# EAGLE library part CY7C68013-56PVC (library MSA_lib)
Cypress EZ-USB FX2
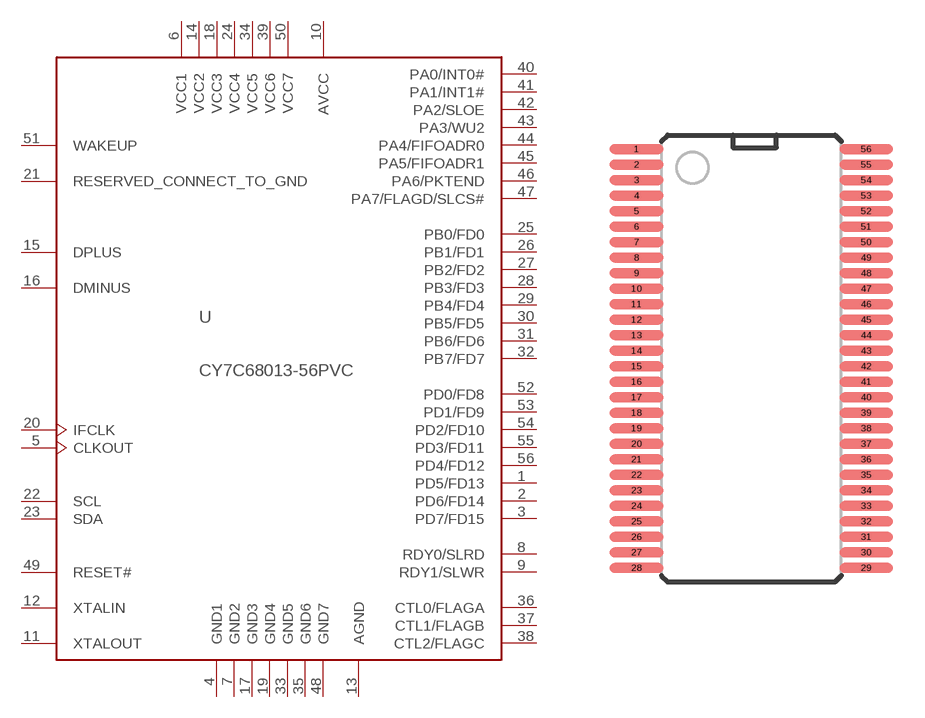
[diagram p20: symbol with the pads of SSOP-56; footprint SSOP-56]

Designator prefix U

## CY7C68013-56PVC (OC_FARNELL: 1269134)  [SSOP-56]
1  PD5/FD13
2  PD6/FD14
3  PD7/FD15
4  GND1
5  CLKOUT  out
6  VCC1
7  GND2
8  RDY0/SLRD
9  RDY1/SLWR
10  AVCC
11  XTALOUT
12  XTALIN
13  AGND
14  VCC2
15  DPLUS
16  DMINUS
17  GND3
18  VCC3
19  GND4
20  IFCLK
21  RESERVED_CONNECT_TO_GND  in
22  SCL
23  SDA
24  VCC4
25  PB0/FD0
26  PB1/FD1
27  PB2/FD2
28  PB3/FD3
29  PB4/FD4
30  PB5/FD5
31  PB6/FD6
32  PB7/FD7
33  GND5
34  VCC5
35  GND6
36  CTL0/FLAGA
37  CTL1/FLAGB
38  CTL2/FLAGC
39  VCC6
40  PA0/INT0#
41  PA1/INT1#
42  PA2/SLOE
43  PA3/WU2
44  PA4/FIFOADR0
45  PA5/FIFOADR1
46  PA6/PKTEND
47  PA7/FLAGD/SLCS#
48  GND7
49  RESET#  in
50  VCC7
51  WAKEUP
52  PD0/FD8
53  PD1/FD9
54  PD2/FD10
55  PD3/FD11
56  PD4/FD12

## Footprint SSOP-56 (pad centres in mm)
56-lead Shrunk Small Outline Package SSOP56
smd 2.2 x 0.4: 1 -4.7,8.572; 2 -4.7,7.938; 3 -4.7,7.303; 4 -4.7,6.668; 5 -4.7,6.032; 6 -4.7,5.397; 7 -4.7,4.763; 8 -4.7,4.128; 9 -4.7,3.493; 10 -4.7,2.857; 11 -4.7,2.223; 12 -4.7,1.587; 13 -4.7,0.953; 14 -4.7,0.318; 15 -4.7,-0.318; 16 -4.7,-0.953; 17 -4.7,-1.587; 18 -4.7,-2.223; 19 -4.7,-2.857; 20 -4.7,-3.493; 21 -4.7,-4.128; 22 -4.7,-4.763; 23 -4.7,-5.397; 24 -4.7,-6.032; 25 -4.7,-6.668; 26 -4.7,-7.303; 27 -4.7,-7.938; 28 -4.7,-8.572; 29 4.7,-8.572; 30 4.7,-7.938; 31 4.7,-7.303; 32 4.7,-6.668; 33 4.7,-6.032; 34 4.7,-5.397; 35 4.7,-4.763; 36 4.7,-4.128; 37 4.7,-3.493; 38 4.7,-2.857; 39 4.7,-2.223; 40 4.7,-1.587; 41 4.7,-0.953; 42 4.7,-0.318; 43 4.7,0.318; 44 4.7,0.953; 45 4.7,1.587; 46 4.7,2.223; 47 4.7,2.857; 48 4.7,3.493; 49 4.7,4.128; 50 4.7,4.763; 51 4.7,5.397; 52 4.7,6.032; 53 4.7,6.668; 54 4.7,7.303; 55 4.7,7.938; 56 4.7,8.572